# Altium schematic symbol library PC817X2NSZ9F.SchLib: 1 symbol
Pins are listed as number, name and electrical type; pins without a type are passive.

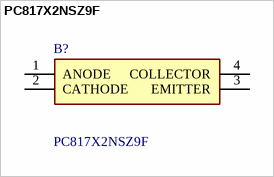
[diagram p0: symbol PC817X2NSZ9F]

## PC817X2NSZ9F
designator B?
Transistor Output Optocouplers Photocoupler; Manufacturer_Name: Sharp Microelectronics; Geometry.Height: 4.5mm; Manufacturer_Part_Number: PC817X2NSZ9F; Mouser Part Number: 852-PC817X2NSZ9F; Mouser Price/Stock: https://www.mouser.co.uk/ProductDetail/Sharp-Microelectronics/PC817X2NSZ9F?qs=rrS6PyfT74ehABo1g8zXHw%3D%3D; Arrow Part Number: *; Arrow Price/Stock: *; Datasheet Link: http://www.socle-tech.com/doc/IC%20Channel%20Product/Optoelectronic%20Components/Photocoupler/PC817X_NSZ9FSeries_SPEC.pdf
footprint DIP762W60P254L460H450Q4N
pins: 1 ANODE, 2 CATHODE, 3 EMITTER, 4 COLLECTOR